# EAGLE library part RGBLED10MM (library spin)
Kingbright 10mm RGB LED
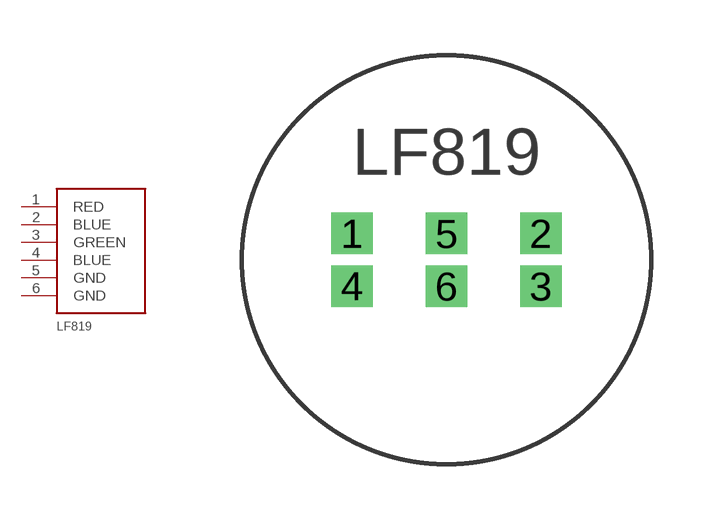
[diagram p0: symbol with the pads of RGBLED10MM; footprint RGBLED10MM]

Designator prefix -

## RGBLED10MM  [RGBLED10MM]
1  RED  pas
2  BLUE  pas
3  GREEN  pas
4  BLUE  pas
5  GND  pas
6  GND  pas

## Footprint RGBLED10MM (pad centres in mm)
Kingbright LF819
drill 0.61 pad 0.813 square: 1 -2.54,0.708; 2 2.54,0.708; 3 2.54,-0.708; 4 -2.54,-0.708; 5 0,0.708; 6 0,-0.708